# Altium schematic symbol library TLP181.Schlib: 1 symbol
Pins are listed as number, name and electrical type; pins without a type are passive.

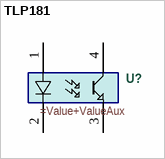
[diagram p0: symbol TLP181]

## TLP181
designator U?
=Description
pins: 1 ANODE, 2 CATHODE, 3 EMITTER, 4 COLLECTOR